# Altium footprint library PCB - LEADLESS - QFN - MAXIM QFN-20 4X4MM T2055+4.PCBLIB: 1 footprints
Each footprint in its own frame and in the unit in brackets; x right, y up, seen from the top. Pads: shape width x height; smd on the part's side, far side on the other; paste and mask are expansions set on the pad; w line width, h text height; cw(c..) or ccw(c..) is an arc to the next point about the centre after c.
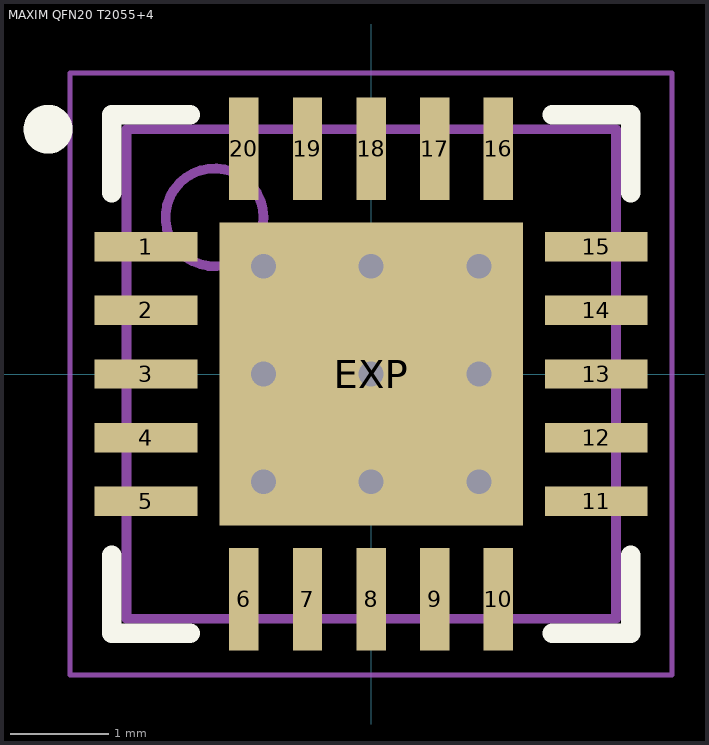
[diagram p0: the footprint, top view; thin cyan lines are the x and y axes]

## MAXIM QFN20 T2055+4 [mm] "QFN, 20-Leads, Body 5.00x5.00mm, Pitch 0.65mm, Thermal Pad 3.10x3.10mm, IPC Medium Density"
height 0.8
pads (21):
  rect 1.05x0.3 smd mask+0.076: 1(-2.3,1.3) 2(-2.3,0.65) 3(-2.3,0) 4(-2.3,-0.65) 5(-2.3,-1.3) 11(2.3,-1.3) 12(2.3,-0.65) 13(2.3,0) 14(2.3,0.65) 15(2.3,1.3)
  rect 0.3x1.05 smd mask+0.076: 6(-1.3,-2.3) 7(-0.65,-2.3) 8(0,-2.3) 9(0.65,-2.3) 10(1.3,-2.3) 16(1.3,2.3) 17(0.65,2.3) 18(0,2.3) 19(-0.65,2.3) 20(-1.3,2.3)
  rect 3.1x3.1 smd mask+0.076: EXP(0,0)
via 1.1,-1.1 diameter 0.61 hole 0.254
via 0,-1.1 diameter 0.61 hole 0.254
via -1.1,-1.1 diameter 0.61 hole 0.254
via 1.1,0 diameter 0.61 hole 0.254
via 0,0 diameter 0.61 hole 0.254
via -1.1,0 diameter 0.61 hole 0.254
via 1.1,1.1 diameter 0.61 hole 0.254
via 0,1.1 diameter 0.61 hole 0.254
via -1.1,1.1 diameter 0.61 hole 0.254
Top Overlay:
  circle w0.25: c-3.3,2.5 r0.125
  lines w0.2: -2.65,-1.85 -2.65,-2.65 -1.85,-2.65 ; -2.65,1.85 -2.65,2.65 -1.85,2.65 ; 1.85,-2.65 2.65,-2.65 2.65,-1.85 ; 1.85,2.65 2.65,2.65 2.65,1.85
Mechanical 13:
  circle w0.1: c-1.6,1.6 r0.5
  lines w0.1: -2.5,-2.5 2.5,-2.5 2.5,2.5 -2.5,2.5 -2.5,-2.5
Mechanical 15:
  lines w0.05: -3.075,-3.075 3.075,-3.075 3.075,3.075 -3.075,3.075 -3.075,-3.075
  lines w0.1: -0.5,0 0.5,0 ; 0,-0.5 0,0.5
3D body "QFN65P500X500X80_HS-21N.step": height 0.8, standoff 0, extent -2.52,-2.52 2.52,2.52